# EAGLE library part ADS1114 (library SDSURocket-DigitalIC)
ADS1114 Ultra-Small, Low-Power, 16-Bit Analog-to-Digital Converter with Internal Reference
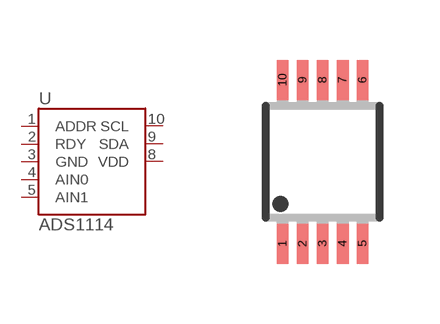
[diagram p2: symbol with the pads of MSOP10; footprint MSOP10]

Designator prefix -

## ADS1114-MSOP  [MSOP10]
1  ADDR
2  RDY
3  GND  pwr
4  AIN0  in
5  AIN1  in
8  VDD  pwr
9  SDA
10  SCL

## Footprint MSOP10 (pad centres in mm)
10 Lead Platic MSOP Source: https://github.com/sparkfun/SparkFun-Eagle-Libraries
smd 0.3 x 1: 1 -1,-2.05; 2 -0.5,-2.05; 3 0,-2.05; 4 0.5,-2.05; 5 1,-2.05; 6 1,2.05; 7 0.5,2.05; 8 0,2.05; 9 -0.5,2.05; 10 -1,2.05